# Altium schematic symbol library Schlib1.SchLib: 5 symbols
Pins are listed as number, name and electrical type; pins without a type are passive.

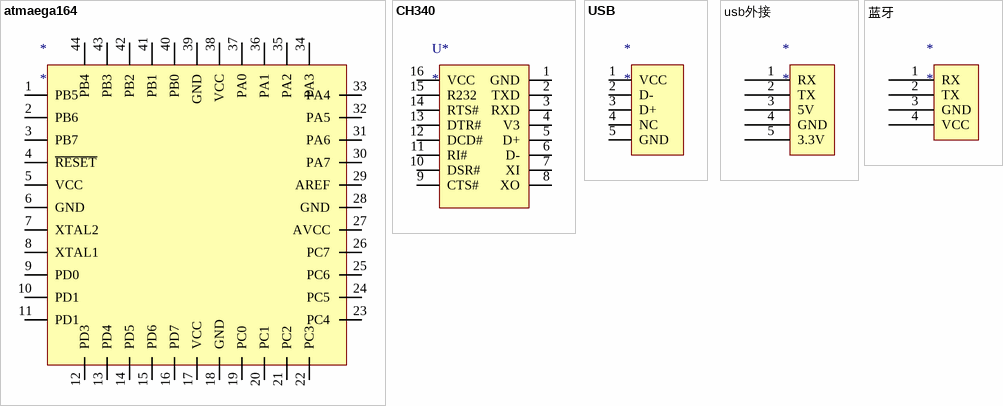
[diagram p0: symbols atmaega164 to 蓝牙]

## atmaega164
designator *
pins: 1 PB5, 2 PB6, 3 PB7, 4 ~{RESET}, 5 VCC, 6 GND, 7 XTAL2, 8 XTAL1, 9 PD0, 10 PD1, 11 PD1, 12 PD3, 13 PD4, 14 PD5, 15 PD6, 16 PD7, 17 VCC, 18 GND, 19 PC0, 20 PC1, 21 PC2, 22 PC3, 23 PC4, 24 PC5, 25 PC6, 26 PC7, 27 AVCC, 28 GND, 29 AREF, 30 PA7, 31 PA6, 32 PA5, 33 PA4, 34 PA3, 35 PA2, 36 PA1, 37 PA0, 38 VCC, 39 GND, 40 PB0, 41 PB1, 42 PB2, 43 PB3, 44 PB4

## CH340
designator U*
pins: 1 GND, 2 TXD, 3 RXD, 4 V3, 5 D+, 6 D-, 7 XI, 8 XO, 9 CTS#, 10 DSR#, 11 RI#, 12 DCD#, 13 DTR#, 14 RTS#, 15 R232, 16 VCC

## USB
designator *
pins: 1 VCC, 2 D-, 3 D+, 4 NC, 5 GND

## usb外接
designator *
pins: 1 RX, 2 TX, 3 5V, 4 GND, 5 3.3V

## 蓝牙
designator *
pins: 1 RX, 2 TX, 3 GND, 4 VCC